# EAGLE library part CC2640 (library chips)
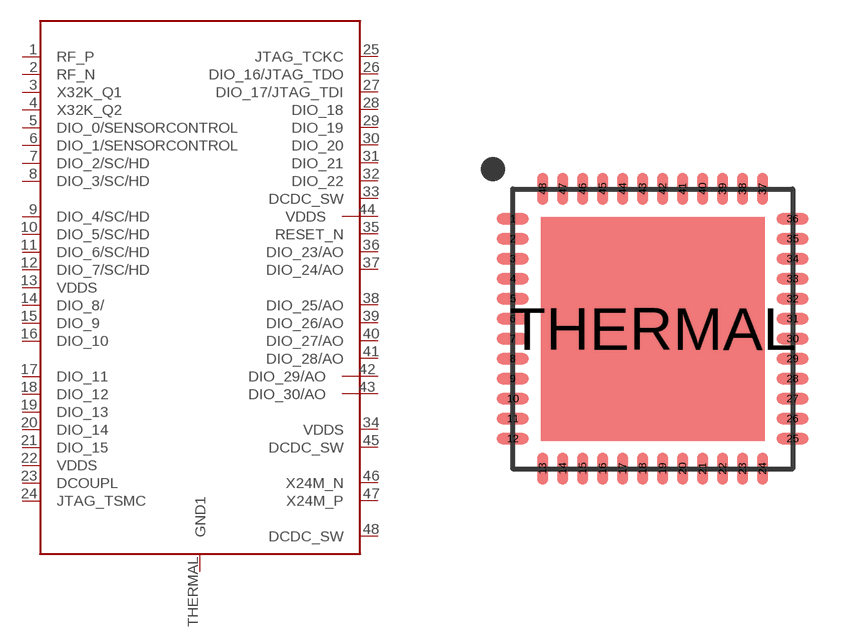
[diagram p59: symbol with the pads of QFN-48-7MM; footprint QFN-48-7MM]

Designator prefix -

## CC2640  [QFN-48-7MM]
1  RF_P
2  RF_N
3  X32K_Q1
4  X32K_Q2
5  DIO_0/SENSORCONTROL
6  DIO_1/SENSORCONTROL
7  DIO_2/SC/HD
8  DIO_3/SC/HD
9  DIO_4/SC/HD
10  DIO_5/SC/HD
11  DIO_6/SC/HD
12  DIO_7/SC/HD
13  VDDS
14  DIO_8/
15  DIO_9
16  DIO_10
17  DIO_11
18  DIO_12
19  DIO_13
20  DIO_14
21  DIO_15
22  VDDS
23  DCOUPL
24  JTAG_TSMC
25  JTAG_TCKC
26  DIO_16/JTAG_TDO
27  DIO_17/JTAG_TDI
28  DIO_18
29  DIO_19
30  DIO_20
31  DIO_21
32  DIO_22
33  DCDC_SW
34  VDDS
35  RESET_N
36  DIO_23/AO
37  DIO_24/AO
38  DIO_25/AO
39  DIO_26/AO
40  DIO_27/AO
41  DIO_28/AO
42  DIO_29/AO
43  DIO_30/AO
44  VDDS
45  DCDC_SW
46  X24M_N
47  X24M_P
48  DCDC_SW
THERMAL  GND1

## Footprint QFN-48-7MM (pad centres in mm)
7MM x 7MM 48 QFN package
smd 0.8 x 0.28: 1 -3.5,2.75; 2 -3.5,2.25; 3 -3.5,1.75; 4 -3.5,1.25; 5 -3.5,0.75; 6 -3.5,0.25; 7 -3.5,-0.25; 8 -3.5,-0.75; 9 -3.5,-1.25; 10 -3.5,-1.75; 11 -3.5,-2.25; 12 -3.5,-2.75; 25 3.5,-2.75; 26 3.5,-2.25; 27 3.5,-1.75; 28 3.5,-1.25; 29 3.5,-0.75; 30 3.5,-0.25; 31 3.5,0.25; 32 3.5,0.75; 33 3.5,1.25; 34 3.5,1.75; 35 3.5,2.25; 36 3.5,2.75
smd 0.28 x 0.8: 13 -2.75,-3.5; 14 -2.25,-3.5; 15 -1.75,-3.5; 16 -1.25,-3.5; 17 -0.75,-3.5; 18 -0.25,-3.5; 19 0.25,-3.5; 20 0.75,-3.5; 21 1.25,-3.5; 22 1.75,-3.5; 23 2.25,-3.5; 24 2.75,-3.5; 37 2.75,3.5; 38 2.25,3.5; 39 1.75,3.5; 40 1.25,3.5; 41 0.75,3.5; 42 0.25,3.5; 43 -0.25,3.5; 44 -0.75,3.5; 45 -1.25,3.5; 46 -1.75,3.5; 47 -2.25,3.5; 48 -2.75,3.5
smd 5.6 x 5.6: THERMAL 0,0